# Altium schematic symbol library hdmi_ic.SchLib: 5 symbols
Pins are listed as number, name and electrical type; pins without a type are passive.

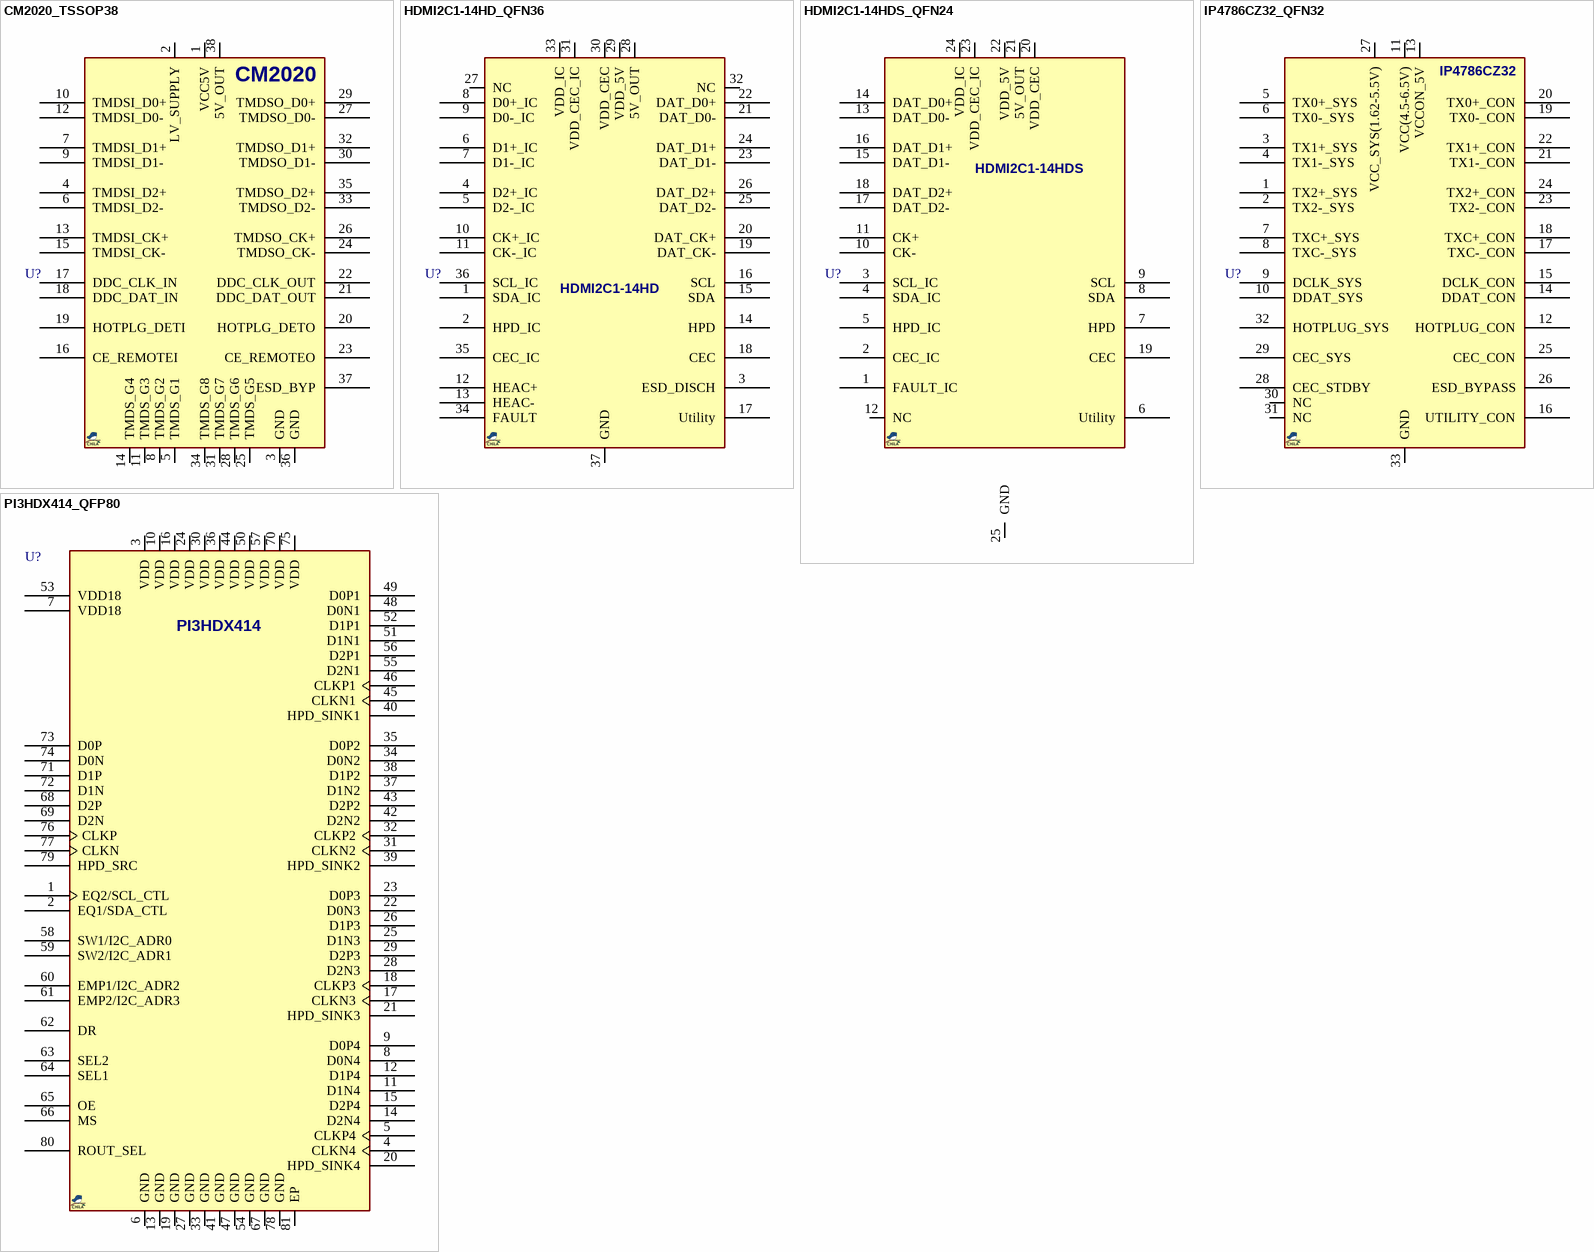
[diagram p0: symbols CM2020_TSSOP38 to PI3HDX414_QFP80]

## CM2020_TSSOP38
designator U?, comment CM2020  (value not drawn)
HDMI 1.3, ±8 kV ESD; MANF: ON; MANF_P#: CM2020-01TR; VALUE: CM2020; Package: TSSOP-38
footprint SOG50_38 (38L TSSOP (MAXIM),38Lead, pitch: 0.5mm, 10x4.4x1.2mm)
pins: 1 VCC5V, 2 LV_SUPPLY, 3 GND, 4 TMDSI_D2+, 5 TMDS_G1, 6 TMDSI_D2-, 7 TMDSI_D1+, 8 TMDS_G2, 9 TMDSI_D1-, 10 TMDSI_D0+, 11 TMDS_G3, 12 TMDSI_D0-, 13 TMDSI_CK+, 14 TMDS_G4, 15 TMDSI_CK-, 16 CE_REMOTEI, 17 DDC_CLK_IN, 18 DDC_DAT_IN, 19 HOTPLG_DETI, 20 HOTPLG_DETO, 21 DDC_DAT_OUT, 22 DDC_CLK_OUT, 23 CE_REMOTEO, 24 TMDSO_CK-, 25 TMDS_G5, 26 TMDSO_CK+, 27 TMDSO_D0-, 28 TMDS_G6, 29 TMDSO_D0+, 30 TMDSO_D1-, 31 TMDS_G7, 32 TMDSO_D1+, 33 TMDSO_D2-, 34 TMDS_G8, 35 TMDSO_D2+, 36 GND, 37 ESD_BYP, 38 5V_OUT

## HDMI2C1-14HD_QFN36
designator U?, comment HDMI2C1-14HD  (value not drawn)
HDMI 2.0, ±8 kV ESD,; MANF: ST; PARAM: HDMI 2.0, -40~85°C; MANF_P#: HDMI2C1-14HD; PRICE: 1.5$; VALUE: HDMI2C1-14HD; Package: QFN-36
footprint QFN50_36T_5335 (QFN 36, 0.5mm pitch, 5.3X3.5X0.95mm)
pins: 1 SDA_IC, 2 HPD_IC, 3 ESD_DISCH, 4 D2+_IC, 5 D2-_IC, 6 D1+_IC, 7 D1-_IC, 8 D0+_IC, 9 D0-_IC, 10 CK+_IC, 11 CK-_IC, 12 HEAC+, 13 HEAC-, 14 HPD, 15 SDA, 16 SCL, 17 Utility, 18 CEC, 19 DAT_CK-, 20 DAT_CK+, 21 DAT_D0-, 22 DAT_D0+, 23 DAT_D1-, 24 DAT_D1+, 25 DAT_D2-, 26 DAT_D2+, 27 NC, 28 5V_OUT, 29 VDD_5V, 30 VDD_CEC, 31 VDD_CEC_IC, 32 NC, 33 VDD_IC, 34 FAULT, 35 CEC_IC, 36 SCL_IC, 37 GND

## HDMI2C1-14HDS_QFN24
designator U?, comment HDMI2C1-14HDS  (value not drawn)
HDMI 2.0 & 1.4, ±8 kV ESD; MANF: ST; PARAM: HDMI 2.0 & 1.4, -40~85°C; MANF_P#: HDMI2C1-14HDS; PRICE: 1$; VALUE: HDMI2C1-14HDS; Package: QFN-24
footprint QFN50_24T (RTW, RGE S-PQFP-N24 (TI), HVQFN24, 4X4mm, 0.5mm, MO-220 (JEDEC))
pins: 1 FAULT_IC, 2 CEC_IC, 3 SCL_IC, 4 SDA_IC, 5 HPD_IC, 6 Utility, 7 HPD, 8 SDA, 9 SCL, 10 CK-, 11 CK+, 12 NC, 13 DAT_D0-, 14 DAT_D0+, 15 DAT_D1-, 16 DAT_D1+, 17 DAT_D2-, 18 DAT_D2+, 19 CEC, 20 VDD_CEC, 21 5V_OUT, 22 VDD_5V, 23 VDD_CEC_IC, 24 VDD_IC, 25 GND

## IP4786CZ32_QFN32
designator U?, comment IP4786CZ32  (value not drawn)
HDMI 2.0, ±12 kV ESD, 6.0 Gbps; MANF: NXP; PARAM: HDMI 2.0, 6.0 Gbps; MANF_P#: IP4786CZ32; PRICE: 1$; VALUE: IP4786CZ32; Package: QFN-32
footprint QFN50_32T (HVQFN32, UFQFPN32, QFN-32, RGJ, 5X5X0.9mm, 0.5mm)
pins: 1 TX2+_SYS, 2 TX2-_SYS, 3 TX1+_SYS, 4 TX1-_SYS, 5 TX0+_SYS, 6 TX0-_SYS, 7 TXC+_SYS, 8 TXC-_SYS, 9 DCLK_SYS, 10 DDAT_SYS, 11 VCC(4.5-6.5V), 12 HOTPLUG_CON, 13 VCCON_5V, 14 DDAT_CON, 15 DCLK_CON, 16 UTILITY_CON, 17 TXC-_CON, 18 TXC+_CON, 19 TX0-_CON, 20 TX0+_CON, 21 TX1-_CON, 22 TX1+_CON, 23 TX2-_CON, 24 TX2+_CON, 25 CEC_CON, 26 ESD_BYPASS, 27 VCC_SYS(1.62-5.5V), 28 CEC_STDBY, 29 CEC_SYS, 30 NC, 31 NC, 32 HOTPLUG_SYS, 33 GND

## PI3HDX414_QFP80
designator U?, comment PI3HDX414  (value not drawn)
HDMI 1.4b 1:4 Splitter 3.4Gbps data rate; MANF: Diodes Inc.; MANF_P#: PI3HDX414FCEEX; PARAM2: 3.3v; Package: LQFP-80; PARAM: HDMI 1.4b 1:4 Splitter 3.4Gbps; PRICE: 3$; Value: PI3HDX414
footprint QFG40_80T (LQFP-80, 0.40mm Pitch, 10x10mm, FCE80)
pins: 1 EQ2/SCL_CTL, 2 EQ1/SDA_CTL, 3 VDD, 4 CLKN4, 5 CLKP4, 6 GND, 7 VDD18, 8 D0N4, 9 D0P4, 10 VDD, 11 D1N4, 12 D1P4, 13 GND, 14 D2N4, 15 D2P4, 16 VDD, 17 CLKN3, 18 CLKP3, 19 GND, 20 HPD_SINK4, 21 HPD_SINK3, 22 D0N3, 23 D0P3, 24 VDD, 25 D1N3, 26 D1P3, 27 GND, 28 D2N3, 29 D2P3, 30 VDD, 31 CLKN2, 32 CLKP2, 33 GND, 34 D0N2, 35 D0P2, 36 VDD, 37 D1N2, 38 D1P2, 39 HPD_SINK2, 40 HPD_SINK1, 41 GND, 42 D2N2, 43 D2P2, 44 VDD, 45 CLKN1, 46 CLKP1, 47 GND, 48 D0N1, 49 D0P1, 50 VDD, 51 D1N1, 52 D1P1, 53 VDD18, 54 GND, 55 D2N1, 56 D2P1, 57 VDD, 58 SW1/I2C_ADR0, 59 SW2/I2C_ADR1, 60 EMP1/I2C_ADR2, 61 EMP2/I2C_ADR3, 62 DR, 63 SEL2, 64 SEL1, 65 OE, 66 MS, 67 GND, 68 D2P, 69 D2N, 70 VDD, 71 D1P, 72 D1N, 73 D0P, 74 D0N, 75 VDD, 76 CLKP, 77 CLKN, 78 GND, 79 HPD_SRC, 80 ROUT_SEL, 81 EP